# Altium footprint library Maypole_V1.2.PcbLib: 27 footprints (part 2 of 2)
Each footprint in its own frame and in the unit in brackets; x right, y up, seen from the top. Pads: shape width x height; smd on the part's side, far side on the other; paste and mask are expansions set on the pad; w line width, h text height; cw(c..) or ccw(c..) is an arc to the next point about the centre after c.
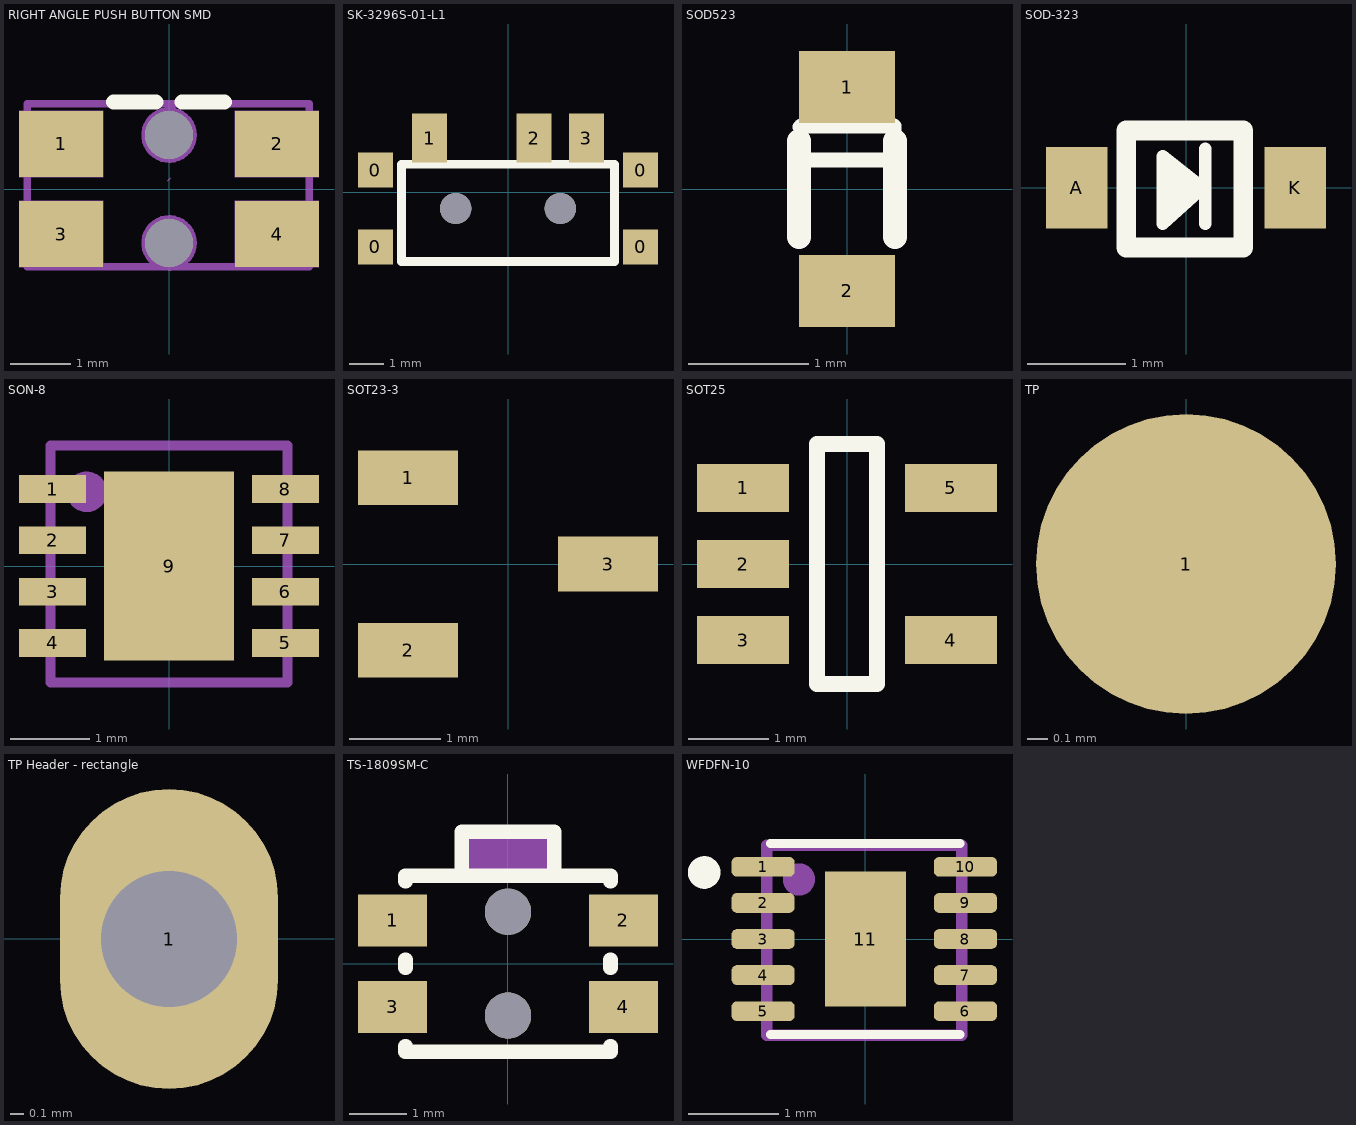
[diagram p1: the footprints below, top view; thin cyan lines are the x and y axes]

## RIGHT ANGLE PUSH BUTTON SMD [mm]
pads (6):
  rect 1.4x1.1 smd: 1(-1.8,0.75) 2(1.8,0.75) 3(-1.8,-0.75) 4(1.8,-0.75)
  round 0.8 hole 0.8 unplated: ""(0,-0.9) ""(0,0.9)
Top Overlay:
  lines w0.254: -0.925,1.45 -0.217,1.45 ; 0.217,1.45 0.925,1.45
Mechanical 4:
  circle w0.4: c0,-0.9 r0.2
  circle w0.4: c0,0.9 r0.2
Mechanical 5:
  circle w0.127: c0,-0.9 r0.4
  circle w0.127: c0,0.9 r0.4
  region: 1.1,-0.2 2.5,-0.2 2.5,-1.3 1.1,-1.3
  region: 1.1,1.3 2.5,1.3 2.5,0.2 1.1,0.2
  region: -2.5,-0.2 -1.1,-0.2 -1.1,-1.3 -2.5,-1.3
  region: -2.5,1.3 -1.1,1.3 -1.1,0.2 -2.5,0.2
Top Assembly (Mech13):
  lines w0.127: -2.362,-1.295 2.337,-1.295 2.337,1.422 -2.362,1.422 -2.362,-1.295
Mechanical 15:
  lines w0.003: -0.018,0.138 0.033,0.189
3D body "EVQ-P7J01P--3DModel-STEP-56544.STEP": height 1.35, standoff 0, extent -2.35,-2.1 2.35,1.45

## SK-3296S-01-L1 [mm]
pads (9):
  rect 1x1 smd paste+0 mask+0.051: 0(-3.8,-1.559) 0(-3.8,0.641) 0(3.8,-1.559) 0(3.8,0.641)
  rect 1x1.4 smd paste+0 mask+0.051: 1(-2.25,1.559) 2(0.75,1.559) 3(2.25,1.559)
  round 0.9 hole 0.9 unplated paste+0: ""(-1.5,-0.459) ""(1.5,-0.459)
Top Overlay:
  lines w0.254: -1.27,-1.983 0.03,-1.983 ; -3.048,-1.983 -3.048,0.811 3.048,0.811 3.048,-1.983 -3.048,-1.983
3D body "sk-3296s-01-l1.x_t": height 1.35, standoff -0.5, extent -3.9,-3.332 3.9,1.918

## SOD523 [mm]
pads (2):
  rect 0.8x0.6 smd: 1(0,0.85) 2(0,-0.85)
Top Overlay:
  lines w0.127: -0.389,0.242 0.391,0.242 0.391,0.524 -0.382,0.524 -0.389,0.517
  lines w0.2: -0.4,-0.4 -0.4,0.4 ; 0.4,-0.4 0.4,0.4
3D body "User Library-SOD-523F.step": height 0.7, standoff 0, extent -0.399,-0.8 0.399,0.8

## SOD-323 [mm]
pads (2):
  rect 0.63x0.83 smd: A(-1.115,0) K(1.115,0)
Top Overlay:
  lines w0.127: -0.143,0.177 -0.148,-0.213 -0.032,0.106 -0.024,-0.067 0.034,-0.002 ; 0.194,-0.366 0.197,0.398 ; -0.237,-0.368 0.173,0 -0.237,0.324 -0.237,-0.368
  lines w0.2: -0.61,-0.61 -0.61,0.584 0.584,0.584 0.584,-0.61 -0.61,-0.61
3D body "User Library-SOD323.x_t": height 0.99, standoff 0, extent -1.25,-0.625 1.25,0.625

## SON-8 [mm]
pads (9):
  rect 0.85x0.35 smd: 1(-1.475,0.975) 2(-1.475,0.325) 3(-1.475,-0.325) 4(-1.475,-0.975) 5(1.475,-0.975) 6(1.475,-0.325) 7(1.475,0.325) 8(1.475,0.975)
  rect 1.65x2.4 smd: 9(0,0)
Top Layer:
  region: 0,-1.2
  region: 0,1.2
Top Overlay:
  text "." at -2.311,0.965 h0.5
Top Paste:
  region: 0,-1.2
  region: 0,1.2
Top Solder:
  region: 0,-1.2
  region: 0,1.2
Top Assembly (Mech13):
  circle w0.254: c-1.041,0.94 r0.13
  lines w0.127: -1.499,-1.473 -1.499,1.524 1.499,1.524 1.499,-1.473 -1.499,-1.473
3D body "DRB0008B.stp": height 0.77, standoff 0, extent -1.5,-1.5 1.5,1.5

## SOT23-3 [mm]
pads (3):
  rect 1.1x0.6 smd: 1(-1.1,0.95) 2(-1.1,-0.95) 3(1.1,0)
Top Assembly:
  circle w0.254: c-0.928,0.968 r0.121
3D body "SOT23-3.stp": height 1.19, standoff 0.01, extent -1.418,-1.5 1.418,1.5

## SOT25 [mm]
pads (5):
  rect 1.15x0.6 smd: 1(-1.3,0.95) 2(-1.3,0) 3(-1.3,-0.95) 4(1.3,-0.95) 5(1.3,0.95)
Top Overlay:
  lines w0.2: -0.375,-1.5 0.375,-1.5 0.375,1.5 -0.375,1.5 -0.375,-1.5
3D body "AP22802AW5-7.stp": height 1.3, standoff 0, extent -1.45,-1.5 1.4,1.5

## TP [mm] "Tp"
pads (1):
  round 1.5 smd: 1(0,-1.016)

## TP Header - rectangle [mm]
pads (1):
  oval 1.6x2.2 hole 1: 1(1.979,0)

## TS-1809SM-C [mm]
pads (6):
  rect 1.2x0.9 smd paste+0 mask+0.051: 1(-2,0.75) 2(2,0.75) 3(-2,-0.75) 4(2,-0.75)
  round 0.8 hole 0.8 unplated paste+0: ""(0,-0.9) ""(0,0.9)
Top Overlay:
  lines w0.254: -1.778,-1.431 -1.778,-1.524 1.778,-1.524 1.778,-1.431 ; -1.778,-0.069 -1.778,0.069 ; -1.778,1.431 -1.778,1.524 1.778,1.524 1.778,1.431 ; -0.8,1.524 -0.8,2.286 0.8,2.286 0.8,1.524 ; 1.778,-0.069 1.778,0.069
Mechanical 15:
  circle w0.3: c0,-0.9 r0.15
  circle w0.3: c0,0.9 r0.15
  region: 0.83,1.55 0.83,2.38 0.82,2.38 -0.84,2.38 -0.84,1.55

## WFDFN-10 [mm]
pads (11):
  rrect55% 0.7x0.22 smd: 1(-1.134,0.8) 2(-1.134,0.4) 3(-1.134,0) 4(-1.134,-0.4) 5(-1.134,-0.8) 6(1.108,-0.8) 7(1.108,-0.4) 8(1.108,0) 9(1.108,0.4) 10(1.108,0.8)
  rect 0.9x1.5 smd: 11(0,0)
Top Overlay:
  circle w0.2: c-1.786,0.737 r0.08
  lines w0.1: -1.05,-1.06 1.05,-1.06 ; -1.05,1.06 1.05,1.06
Top Assembly (Mech13):
  circle w0.254: c-0.737,0.66 r0.051
  lines w0.127: -1.092,-1.067 -1.092,1.041 1.067,1.041 1.067,-1.067 -1.092,-1.067
3D body "SON11P40_220X200X80L30X20T150X90.STEP": height 0.8, standoff 0, extent -1.05,-1.1 1.05,1.1